# EAGLE library part CYRF69103 (library cypress-semi)
Programmable Radio on Chip 2.4 GHz, Low Power
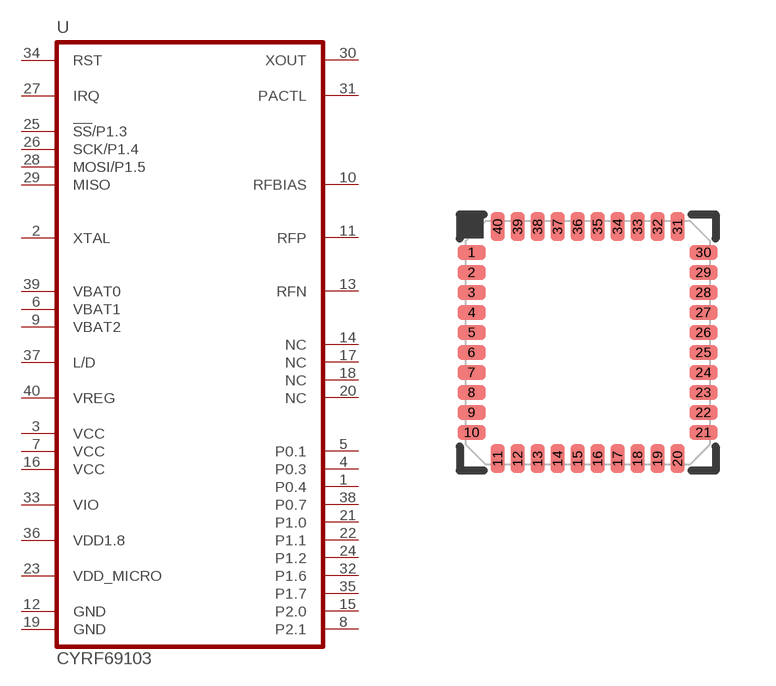
[diagram p0: symbol with the pads of QFN40A; footprint QFN40A]

Designator prefix U

## CYRF69103  [QFN40A]
1  P0.4
2  XTAL
3  VCC
4  P0.3
5  P0.1
6  VBAT1
7  VCC
8  P2.1
9  VBAT2
10  RFBIAS
11  RFP
12  GND
13  RFN
14  NC
15  P2.0
16  VCC
17  NC
18  NC
19  GND
20  NC
21  P1.0
22  P1.1
23  VDD_MICRO
24  P1.2
25  !SS!/P1.3
26  SCK/P1.4
27  IRQ
28  MOSI/P1.5
29  MISO
30  XOUT
31  PACTL
32  P1.6
33  VIO
34  RST
35  P1.7
36  VDD1.8
37  L/D
38  P0.7
39  VBAT0
40  VREG

## Footprint QFN40A (pad centres in mm)
40-Lead Plastic Quad Flat - 6x6x1mm Body [QFN]
smd 0.7 x 0.35: 1 -2.9,2.25; 2 -2.9,1.75; 3 -2.9,1.25; 4 -2.9,0.75; 5 -2.9,0.25; 6 -2.9,-0.25; 7 -2.9,-0.75; 8 -2.9,-1.25; 9 -2.9,-1.75; 10 -2.9,-2.25; 21 2.9,-2.25; 22 2.9,-1.75; 23 2.9,-1.25; 24 2.9,-0.75; 25 2.9,-0.25; 26 2.9,0.25; 27 2.9,0.75; 28 2.9,1.25; 29 2.9,1.75; 30 2.9,2.25
smd 0.35 x 0.7: 11 -2.25,-2.9; 12 -1.75,-2.9; 13 -1.25,-2.9; 14 -0.75,-2.9; 15 -0.25,-2.9; 16 0.25,-2.9; 17 0.75,-2.9; 18 1.25,-2.9; 19 1.75,-2.9; 20 2.25,-2.9; 31 2.25,2.9; 32 1.75,2.9; 33 1.25,2.9; 34 0.75,2.9; 35 0.25,2.9; 36 -0.25,2.9; 37 -0.75,2.9; 38 -1.25,2.9; 39 -1.75,2.9; 40 -2.25,2.9